# EAGLE library part PCA9548A (library SparkFun-IC-Logic)
Texas Instruments PCA9548A - I2C Multiplexer The PCA9548A device has eight bidirectional translating switches that can be controlled through the I2C bus. The SCL/SDA upstream pair fans out to eight downstream pairs, or channels. Any individual SCn/SDn channel or combination of channels can be selected, determined by the contents of the programmable control register. These downstream channels can be used to resolve I2C slave address conflicts.
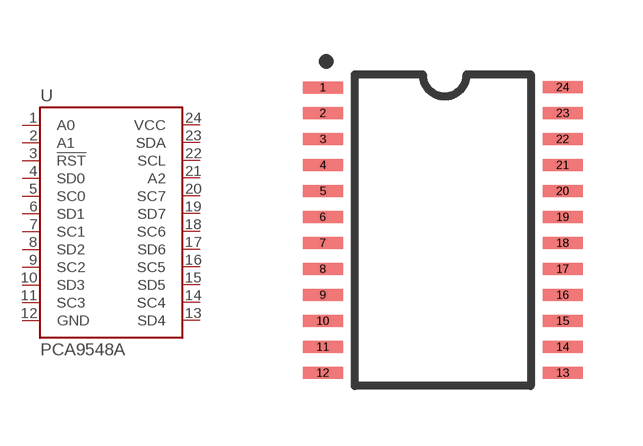
[diagram p13: symbol with the pads of TSSOP28; footprint TSSOP28]

Designator prefix U

## PCA9548A (PROD_ID: IC-13948)  [TSSOP28]
1  A0
2  A1
3  !RST
4  SD0
5  SC0
6  SD1
7  SC1
8  SD2
9  SC2
10  SD3
11  SC3
12  GND
13  SD4
14  SC4
15  SD5
16  SC5
17  SD6
18  SC6
19  SD7
20  SC7
21  A2
22  SCL
23  SDA
24  VCC

## Footprint TSSOP28 (pad centres in mm)
TSSOP-28 - [Package Short Description] Specifications: Pin count: 28 Pin pitch: .65 mm Area: 6.6 mm x 7.9 mm Datasheet referenced for footprint <http://www.ti.com/lit/ds/symlink/pca9548a.pdf>
smd 1 x 0.3: 1 -3,3.57; 2 -3,2.925; 3 -3,2.275; 4 -3,1.625; 5 -3,0.975; 6 -3,0.325; 7 -3,-0.325; 8 -3,-0.975; 9 -3,-1.625; 10 -3,-2.275; 11 -3,-2.925; 12 -3,-3.575; 13 3,-3.575; 14 3,-2.925; 15 3,-2.275; 16 3,-1.625; 17 3,-0.975; 18 3,-0.325; 19 3,0.325; 20 3,0.975; 21 3,1.625; 22 3,2.275; 23 3,2.925; 24 3,3.575